# Altium footprint library PcbLib1.PcbLib: 47 footprints (part 2 of 3)
Each footprint in its own frame and in the unit in brackets; x right, y up, seen from the top. Pads: shape width x height; smd on the part's side, far side on the other; paste and mask are expansions set on the pad; w line width, h text height; cw(c..) or ccw(c..) is an arc to the next point about the centre after c.
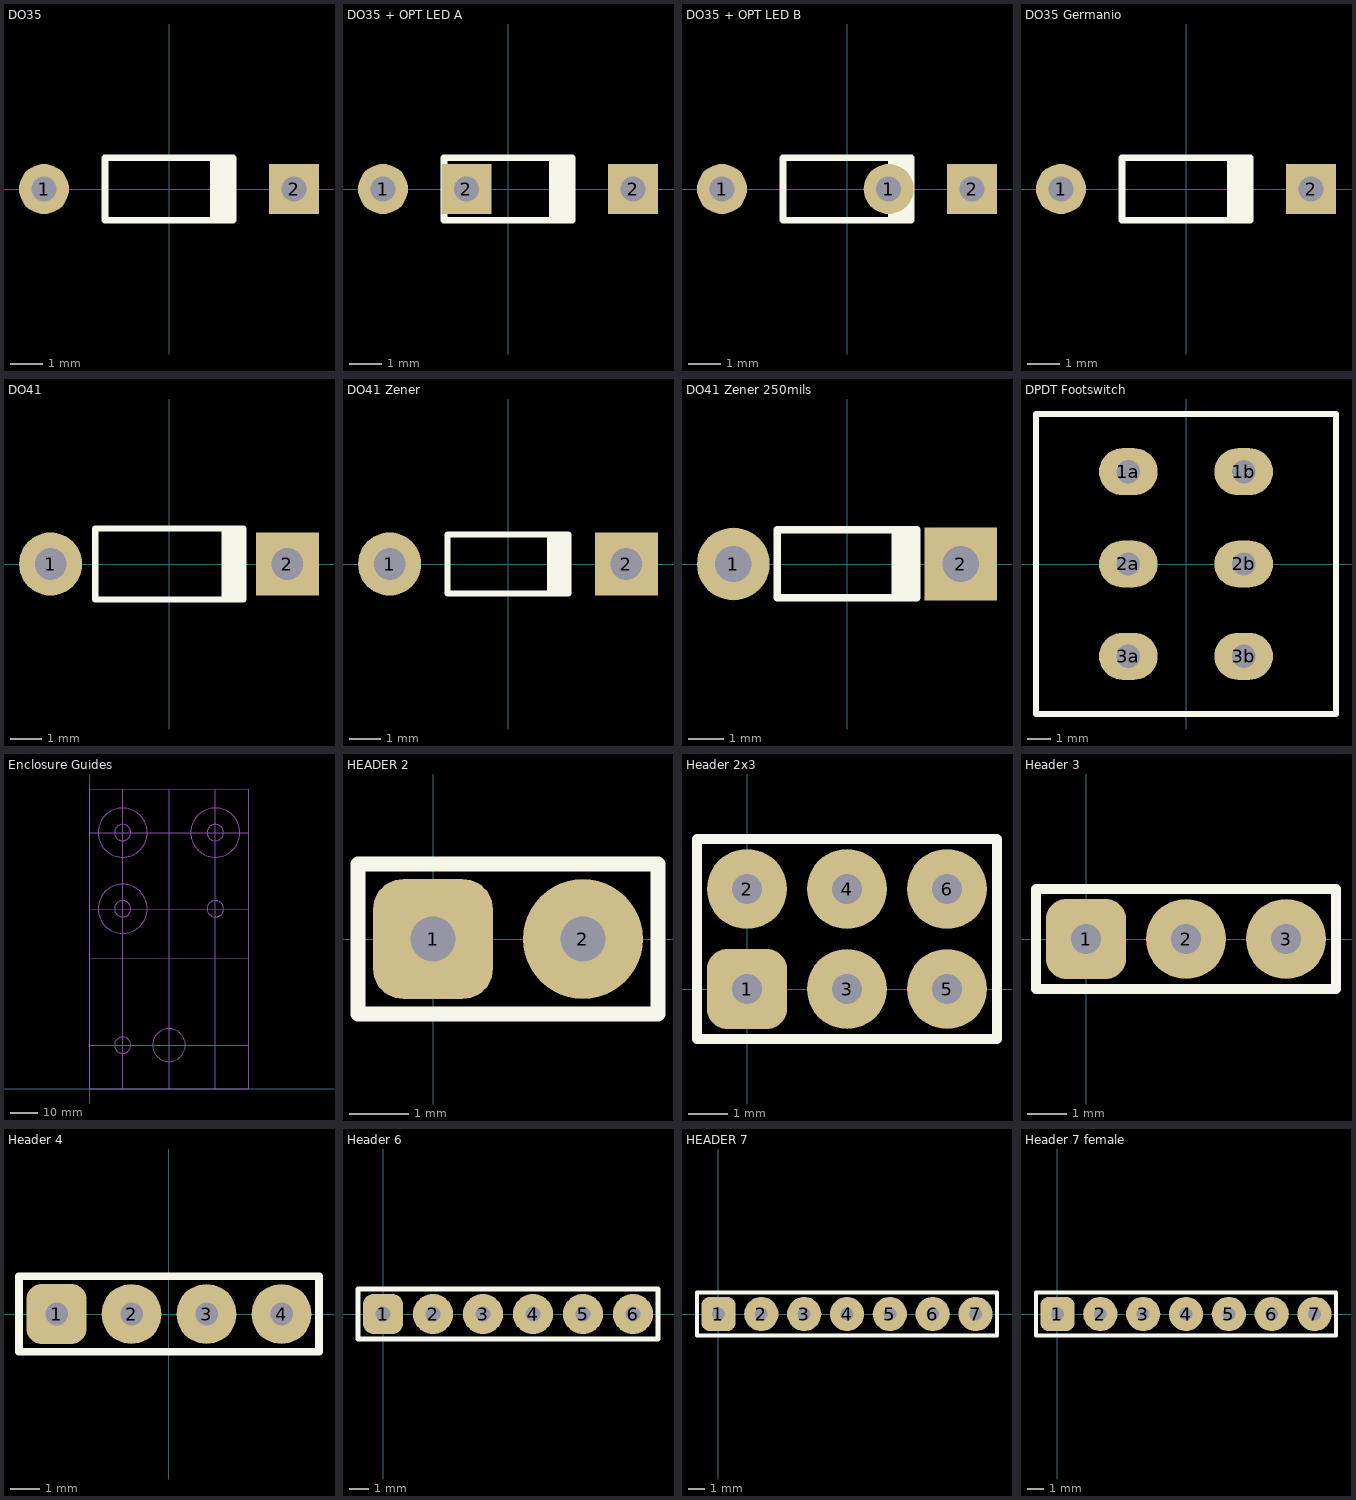
[diagram p1: the footprints below, top view; thin cyan lines are the x and y axes]

## DO35 [mil]
height 50
pads (2):
  round 60 hole 30: 1(-150,0)
  rect 60x60 hole 30: 2(150,0)
Top Overlay:
  rectangle: 49.21,-37.4 80.71,37.4
  lines w7.87: 76.77,-37.4 -76.77,-37.4 -76.77,37.4 76.77,37.4
3D body: height 79.92, standoff 0.08, extent -90,-39.88 90,39.8
3D body: height 77.92, standoff 2.08, extent 55,-37.84 85,37.86
3D body: height 69.94, standoff 10.06, extent 5,-29.82 85,29.94
3D body: height 69.94, standoff 10.06, extent -85,-29.76 -5,30
3D body: height 50, standoff 30, extent -159.99,-9.92 -139.99,9.93
3D body: height 50, standoff 30, extent 140.01,-9.92 160.01,9.93
3D body: height 49.98, standoff 30.02, extent -150,-9.91 150,10.01
3D body: height 40, standoff -30, extent -159.91,-9.97 -139.99,9.99
3D body: height 40, standoff -30, extent 140.09,-9.97 160.01,9.99
3D body: height 63.95, standoff 16.05, extent -5,-23.95 5,23.87

## DO35 + OPT LED A [mil]
pads (3):
  round 60 hole 30: 1(-150,0)
  rect 60x60 hole 30: 2(-50,0) 2(150,0)
Top Overlay:
  rectangle: 49.21,-37.4 80.71,37.4
  lines w7.87: 76.77,-37.4 -76.77,-37.4 -76.77,37.4 76.77,37.4
3D body: height 63.95, standoff 16.05, extent -5,-23.95 5,23.87
3D body: height 40, standoff -30, extent 140.09,-9.97 160.01,9.99
3D body: height 40, standoff -30, extent -159.91,-9.97 -139.99,9.99
3D body: height 49.98, standoff 30.02, extent -150,-9.91 150,10.01
3D body: height 50, standoff 30, extent 140.01,-9.92 160.01,9.93
3D body: height 50, standoff 30, extent -159.99,-9.92 -139.99,9.93
3D body: height 69.94, standoff 10.06, extent -85,-29.76 -5,30
3D body: height 69.94, standoff 10.06, extent 5,-29.82 85,29.94
3D body: height 77.92, standoff 2.08, extent 55,-37.84 85,37.86
3D body: height 79.92, standoff 0.08, extent -90,-39.88 90,39.8

## DO35 + OPT LED B [mil]
pads (3):
  round 60 hole 30: 1(-150,0) 1(50,0)
  rect 60x60 hole 30: 2(150,0)
Top Overlay:
  rectangle: 49.21,-37.4 80.71,37.4
  lines w7.87: 76.77,-37.4 -76.77,-37.4 -76.77,37.4 76.77,37.4
3D body: height 79.92, standoff 0.08, extent -90,-39.88 90,39.8
3D body: height 77.92, standoff 2.08, extent 55,-37.84 85,37.86
3D body: height 69.94, standoff 10.06, extent 5,-29.82 85,29.94
3D body: height 69.94, standoff 10.06, extent -85,-29.76 -5,30
3D body: height 50, standoff 30, extent -159.99,-9.92 -139.99,9.93
3D body: height 50, standoff 30, extent 140.01,-9.92 160.01,9.93
3D body: height 49.98, standoff 30.02, extent -150,-9.91 150,10.01
3D body: height 40, standoff -30, extent -159.91,-9.97 -139.99,9.99
3D body: height 40, standoff -30, extent 140.09,-9.97 160.01,9.99
3D body: height 63.95, standoff 16.05, extent -5,-23.95 5,23.87

## DO35 Germanio [mil]
height 50
pads (2):
  round 60 hole 30: 1(-150,0)
  rect 60x60 hole 30: 2(150,0)
Top Overlay:
  rectangle: 49.21,-37.4 80.71,37.4
  lines w7.87: 76.77,-37.4 -76.77,-37.4 -76.77,37.4 76.77,37.4
3D body: height 79.92, standoff 0.08, extent -90,-39.68 90,40
3D body: height 77.92, standoff 2.08, extent 30,-37.85 90,37.85
3D body: height 41, standoff 39, extent -89.76,-0.91 90.24,1.08
3D body: height 49.98, standoff 30.02, extent 40,-9.92 150,10
3D body: height 77.92, standoff 2.08, extent 55,-37.85 85,37.85
3D body: height 69.76, standoff 10, extent -85,-29.88 -35,30
3D body: height 50, standoff 30, extent -159.99,-9.92 -139.99,9.93
3D body: height 50, standoff 30, extent 140.01,-9.92 160.01,9.93
3D body: height 49.98, standoff 30.02, extent -150,-10 -30,9.92
3D body: height 40, standoff -30, extent -159.91,-9.97 -139.99,9.99
3D body: height 40, standoff -30, extent 140.09,-9.97 160.01,9.99
3D body: height 55.97, standoff 24.03, extent 45,-15.87 55,16.01

## DO41 [mil]
height 80
pads (2):
  round 80 hole 40: 1(-150,0)
  rect 80x80 hole 40: 2(150,0)
Top Overlay:
  rectangle: 66.77,-45 98.27,45
  lines w7.87: -93.43,-45 -93.43,45 ; -93,-45 94,-45 ; -93,45 94,45
3D body: height 55, standoff -30, extent 135.12,-14.96 165,14.98
3D body: height 55, standoff -30, extent -164.88,-14.96 -135,14.98
3D body: height 69.97, standoff 40.03, extent -150,-14.94 150,14.94
3D body: height 70, standoff 40, extent 135.04,-14.89 165,14.91
3D body: height 70, standoff 40, extent -164.96,-14.89 -135,14.91
3D body: height 102.91, standoff 7.09, extent -100,-47.62 100,48
3D body: height 103.1, standoff 6.9, extent 60,-48.04 95,47.98

## DO41 Zener [mil]
pads (2):
  round 80 hole 40: 1(-150,0)
  rect 80x80 hole 40: 2(150,0)
Top Overlay:
  rectangle: 49.21,-37.4 80.71,37.4
  lines w7.87: 76.77,-37.4 -76.77,-37.4 -76.77,37.4 76.77,37.4
3D body: height 89.9, standoff -9.9, extent -90,-49.8 90,49.8
3D body: height 87.91, standoff -7.91, extent 55,-47.76 85,47.86
3D body: height 84.91, standoff -4.91, extent 5,-44.7 85,44.94
3D body: height 84.91, standoff -4.91, extent -85,-44.64 -5,45
3D body: height 55, standoff 25, extent -164.96,-14.89 -135,14.91
3D body: height 55, standoff 25, extent 135.04,-14.89 165,14.91
3D body: height 54.97, standoff 25.03, extent -150,-14.88 150,15.01
3D body: height 40, standoff -30, extent -164.88,-14.96 -135,14.98
3D body: height 40, standoff -30, extent 135.12,-14.96 165,14.98
3D body: height 63.95, standoff 16.05, extent -5,-23.95 5,23.87

## DO41 Zener 250mils [mil]
pads (2):
  round 80 hole 40: 1(-125,0)
  rect 80x80 hole 40: 2(125,0)
Top Overlay:
  rectangle: 49.21,-37.2 80.71,37.6
  lines w7.87: 76.77,-37.2 -76.77,-37.2 -76.77,37.6 76.77,37.6
3D body: height 89.9, standoff -9.9, extent -90,-49.6 90,50
3D body: height 87.91, standoff -7.91, extent 55,-47.56 85,48.07
3D body: height 84.91, standoff -4.91, extent 5,-44.5 85,45.14
3D body: height 84.91, standoff -4.91, extent -85,-44.44 -5,45.2
3D body: height 55, standoff 25, extent -139.98,-14.9 -110.02,14.9
3D body: height 55, standoff 25, extent 110.02,-14.9 139.98,14.9
3D body: height 54.97, standoff 25.03, extent -125,-14.94 125,14.94
3D body: height 40, standoff -30, extent -139.94,-14.97 -110.06,14.97
3D body: height 40, standoff -30, extent 110.06,-14.97 139.94,14.97
3D body: height 63.95, standoff 16.05, extent -5,-23.74 5,24.07

## DPDT Footswitch [mil]
height 1259.84
pads (6):
  oval 100x80 hole 40: 1a(-98.43,157.48) 1b(98.43,157.48) 2a(-98.43,0) 2b(98.43,0) 3a(-98.43,-157.48) 3b(98.43,-157.48)
Top Layer keep-out:
  lines w10: -255.91,-255.91 -255.91,255.91 255.91,255.91 255.91,-255.91 -255.91,-255.91
Top Overlay:
  lines w10: -255.91,-255.91 255.91,-255.91 255.91,255.91 -255.91,255.91 -255.91,-255.91
3D body: height 400, standoff -100, extent 80.93,-164.98 115.93,-149.98
3D body: height 400, standoff -100, extent -115.92,-164.98 -80.92,-149.98
3D body: height 400, standoff -100, extent -115.92,-7.5 -80.92,7.5
3D body: height 400, standoff -100, extent 80.93,-7.5 115.93,7.5
3D body: height 400, standoff -100, extent 80.93,149.98 115.93,164.98
3D body: height 400, standoff -100, extent -115.92,149.98 -80.92,164.98
3D body: height 472.44, standoff 20, extent -255.91,-255.91 255.91,255.91
3D body: height 944.88, standoff 472.44, extent -236.21,-236.21 236.23,236.23
3D body: height 1062.99, standoff 944.88, extent -118.11,-118.1 118.11,118.12
3D body: height 1259.84, standoff 1062.99, extent -196.85,-196.84 196.85,196.86

## Enclosure Guides [mil]
Mechanical 2:
  circle w10: c472.48,2600.24 r118.11
  circle w10: c1811.02,3700.79 r118.11
  circle w10: c472.44,3700.79 r118.11
  circle w10: c472.44,3700.79 r354.33
  circle w10: c1811.02,3700.79 r354.33
  circle w10: c1141.73,629.92 r236.74
  circle w10: c472.48,2600.24 r354.33
  circle w10: c1811.02,2600.24 r118.11
  circle w10: c472.44,629.92 r118.11
  lines w10: 0,-3.09 0,36.28 0,4327.62 ; 0,0 2283.46,-3.09 2283.46,4327.62 0,4330.71 ; 0,629.92 2283.46,626.83 ; 0,1889.76 2283.46,1886.68 ; 0,2599.97 2283.46,2596.88 ; 0,3700.79 2283.46,3697.7 ; 472.44,-3.09 472.44,4327.62 ; 1141.73,-3.09 1141.73,4327.62 ; 1811.02,-3.09 1811.02,4327.62

## HEADER 2 [mil]
height 300
pads (2):
  rrect50% 80x80 hole 30: 1(0,0)
  round 80 hole 30: 2(100,0)
Top Overlay:
  lines w10: -50,-50 -50,0 -50,50 150,50 150,-50 -50,-50
3D body: height 100, standoff 0, extent -50,-50 150,50
3D body: height 400, standoff -100, extent -12.5,-12.5 12.5,12.5
3D body: height 400, standoff -100, extent 87.5,-12.5 112.5,12.5

## Header 2x3 [mil]
height 300
pads (6):
  rrect50% 80x80 hole 30: 1(0,0)
  round 80 hole 30: 2(0,100) 3(100,0) 4(100,100) 5(200,0) 6(200,100)
Top Overlay:
  lines w10: -50,-50 -50,0 -50,150 250,150 250,-50 -50,-50
3D body: height 400, standoff -100, extent 187.5,87.5 212.5,112.5
3D body: height 400, standoff -100, extent 187.5,-12.5 212.5,12.5
3D body: height 400, standoff -100, extent 87.5,87.5 112.5,112.5
3D body: height 400, standoff -100, extent 87.5,-12.5 112.5,12.5
3D body: height 400, standoff -100, extent -12.5,87.5 12.5,112.5
3D body: height 400, standoff -100, extent -12.5,-12.5 12.5,12.5
3D body: height 100, standoff 0, extent -50,-50 250,150

## Header 3 [mil]
height 300
pads (3):
  rrect50% 80x80 hole 30: 1(0,0)
  round 80 hole 30: 2(100,0) 3(200,0)
Top Overlay:
  lines w10: -50,-50 250,-50 250,50 -50,50 -50,0 -50,-50
3D body: height 100, standoff 0, extent -50,-50 250,50
3D body: height 400, standoff -100, extent -12.5,-12.5 12.5,12.5
3D body: height 400, standoff -100, extent 87.5,-12.5 112.5,12.5
3D body: height 400, standoff -100, extent 187.5,-12.5 212.5,12.5

## Header 4 [mil]
height 300
pads (4):
  rrect50% 80x80 hole 30: 1(-149.99,0)
  round 80 hole 30: 2(-49.99,0) 3(50.01,0) 4(150.01,0)
Top Overlay:
  lines w10: -199.99,-50 -199.99,0 -199.99,50 200,50 200,-50 -199.99,-50
3D body: height 400, standoff -100, extent 137.51,-12.5 162.51,12.5
3D body: height 400, standoff -100, extent 37.51,-12.5 62.51,12.5
3D body: height 400, standoff -100, extent -62.49,-12.5 -37.49,12.5
3D body: height 400, standoff -100, extent -162.49,-12.5 -137.49,12.5
3D body: height 100, standoff 0, extent -199.99,-50 200,50

## Header 6 [mil]
height 300
pads (6):
  rrect50% 80x80 hole 30: 1(0,0)
  round 80 hole 30: 2(100,0) 3(200,0) 4(300,0) 5(400,0) 6(500,0)
Top Overlay:
  lines w10: -50,-50 550,-50 550,50 -50,50 -50,0 -50,-50
3D body: height 100, standoff 0, extent -50,-50 550,50
3D body: height 400, standoff -100, extent -12.5,-12.5 12.5,12.5
3D body: height 400, standoff -100, extent 87.5,-12.5 112.5,12.5
3D body: height 400, standoff -100, extent 187.5,-12.5 212.5,12.5
3D body: height 400, standoff -100, extent 287.5,-12.5 312.5,12.5
3D body: height 400, standoff -100, extent 387.5,-12.5 412.5,12.5
3D body: height 400, standoff -100, extent 487.5,-12.5 512.5,12.5

## HEADER 7 [mil]
height 300
pads (7):
  rrect50% 80x80 hole 30: 1(0,0)
  round 80 hole 30: 2(100,0) 3(200,0) 4(300,0) 5(400,0) 6(500,0) 7(600,0)
Top Overlay:
  lines w10: -50,-50 650,-50 650,50 -50,50 -50,0 -50,-50
3D body: height 400, standoff -100, extent 587.5,-12.5 612.5,12.5
3D body: height 100, standoff 0, extent -50,-50 650,50
3D body: height 400, standoff -100, extent -12.5,-12.5 12.5,12.5
3D body: height 400, standoff -100, extent 87.5,-12.5 112.5,12.5
3D body: height 400, standoff -100, extent 187.5,-12.5 212.5,12.5
3D body: height 400, standoff -100, extent 287.5,-12.5 312.5,12.5
3D body: height 400, standoff -100, extent 387.5,-12.5 412.5,12.5
3D body: height 400, standoff -100, extent 487.5,-12.5 512.5,12.5

## Header 7 female [mil]
pads (7):
  rrect50% 80x80 hole 30: 1(0,0)
  round 80 hole 30: 2(100,0) 3(200,0) 4(300,0) 5(400,0) 6(500,0) 7(600,0)
Top Overlay:
  lines w10: -50,-50 -50,0 -50,50 650,50 650,-50 -50,-50
3D body: height 101, standoff -100, extent 487.5,-12.5 512.5,12.5
3D body: height 101, standoff -100, extent 387.5,-12.5 412.5,12.5
3D body: height 101, standoff -100, extent 287.5,-12.5 312.5,12.5
3D body: height 101, standoff -100, extent 187.5,-12.5 212.5,12.5
3D body: height 101, standoff -100, extent 87.5,-12.5 112.5,12.5
3D body: height 101, standoff -100, extent -12.5,-12.5 12.5,12.5
3D body: height 100, standoff 0, extent -50,-50 650,50
3D body: height 101, standoff -100, extent 587.5,-12.5 612.5,12.5